# Altium footprint library Sensor.PcbLib: 2 footprints
Each footprint in its own frame and in the unit in brackets; x right, y up, seen from the top. Pads: shape width x height; smd on the part's side, far side on the other; paste and mask are expansions set on the pad; w line width, h text height; cw(c..) or ccw(c..) is an arc to the next point about the centre after c.
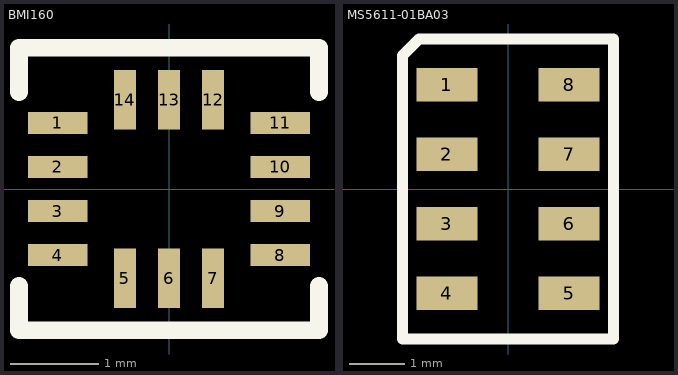
[diagram p0: the footprints below, top view; thin cyan lines are the x and y axes]

## BMI160 [mm] "BMI160 Bosch IMU Sensor"
pads (14):
  rect 0.675x0.25 smd mask+0.05: 1(-1.262,0.75) 2(-1.262,0.25) 3(-1.262,-0.25) 4(-1.262,-0.75) 8(1.262,-0.75) 9(1.262,-0.25) 10(1.262,0.25) 11(1.262,0.75)
  rect 0.25x0.675 smd mask+0.05: 5(-0.5,-1.012) 6(0,-1.012) 7(0.5,-1.012) 12(0.5,1.012) 13(0,1.012) 14(-0.5,1.012)
Top Overlay:
  lines w0.2: -1.7,-1.1 -1.7,-1.6 1.7,-1.6 1.7,-1.1 ; -1.7,1.1 -1.7,1.6 1.7,1.6 1.7,1.1
3D body "BMI160.STEP": height 0.83, standoff 0, extent -1.5,-1.25 1.5,1.25

## MS5611-01BA03 [mm] "MS5611 Barometer Sensor I2C-SPI"
pads (8):
  rect 1.1x0.6 smd: 1(-1.1,1.875) 2(-1.1,0.625) 3(-1.1,-0.625) 4(-1.1,-1.875) 5(1.1,-1.875) 6(1.1,-0.625) 7(1.1,0.625) 8(1.1,1.875)
Top Overlay:
  lines w0.2: -1.9,-2.7 1.9,-2.7 1.9,2.7 -1.6,2.7 -1.9,2.4 -1.9,-2.7
3D body "MS5611-01BA03.STEP": height 1, standoff 0, extent -1.5,-2.5 1.5,2.5